# EAGLE library part TPS6208X (library packages(ti))
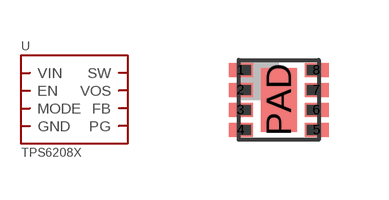
[diagram p14: symbol with the pads of DSG; footprint DSG]

Designator prefix U

## TPS6208X.DSG  [DSG]
1  EN
2  GND
3  MODE
4  FB
5  VOS
6  PG
7  SW
8  VIN
PAD  GND

## Footprint DSG (pad centres in mm)
smd 0.6 x 0.35: 1 -0.95,0.75; 2 -0.95,0.25; 3 -0.95,-0.25; 4 -0.95,-0.75; 5 0.95,-0.75; 6 0.95,-0.25; 7 0.95,0.25; 8 0.95,0.75
smd 0.9 x 1.6: PAD 0,0